# Altium schematic symbol library BNO055.SchLib: 1 symbol
Pins are listed as number, name and electrical type; pins without a type are passive.

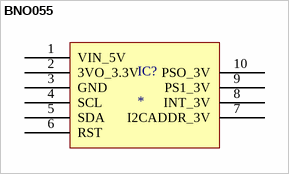
[diagram p0: symbol BNO055]

## BNO055
designator IC?
footprint BNO055 (Footprint not found)
pins: 1 VIN_5V, 2 3VO_3.3V, 3 GND, 4 SCL, 5 SDA, 6 RST, 7 I2CADDR_3V, 8 INT_3V, 9 PS1_3V, 10 PSO_3V